# Altium schematic symbol library General_Connector.SchLib: 11 symbols
Pins are listed as number, name and electrical type; pins without a type are passive.

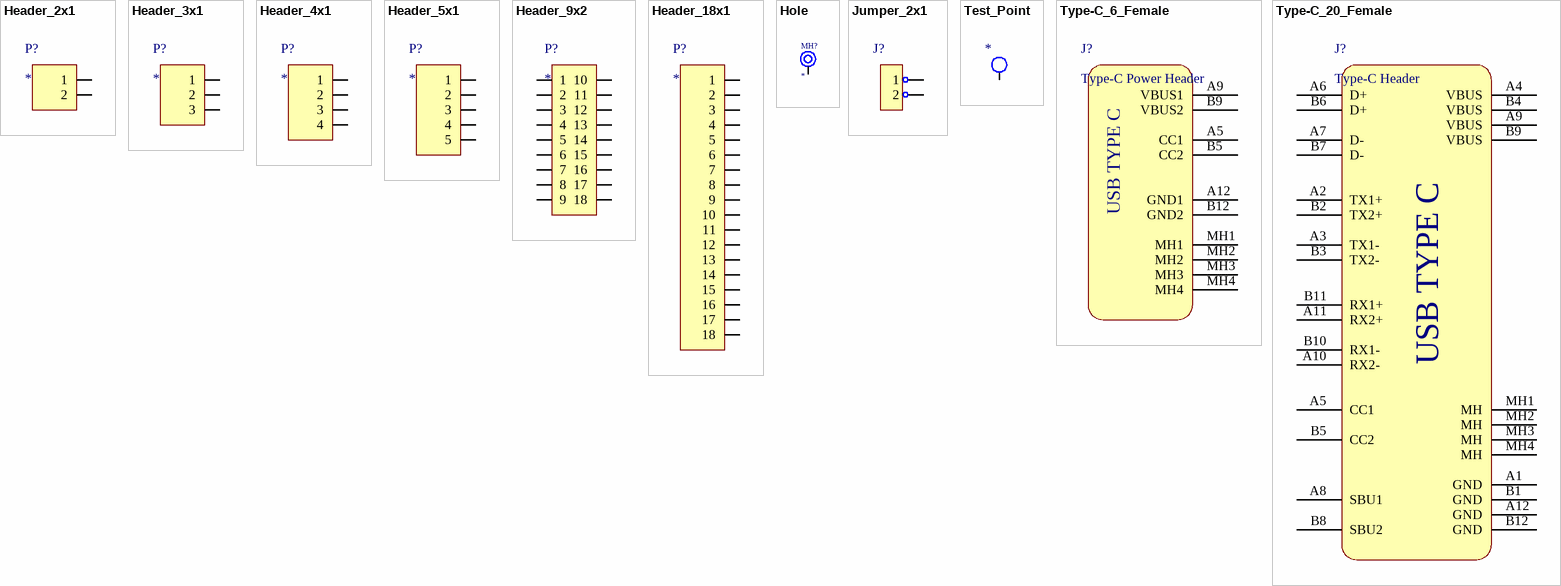
[diagram p0: symbols Header_2x1 to Type-C_20_Female]

## Header_2x1
designator P?
General header 2x1; Mfr. #: *; Mfr.: *; Distributor_Link: *; Datasheet: *; Distributor #: *
footprint XT60PW-M
footprint KF350-2P
footprint Dupont_Header_(Female)_2.54_2x1 (Dupont Header (Female) 2x1)
footprint Dupont_Header_(male)_2.54_2x1 (Dupont Header (male) 2x1)
pins: 1, 2

## Header_3x1
designator P?
General header 3x1; Mfr. #: *; Mfr.: *; Distributor_Link: *; Datasheet: *; Distributor #: *
pins: 1, 2, 3

## Header_4x1
designator P?
General header 4x1; Mfr. #: *; Mfr.: *; Distributor_Link: *; Datasheet: *; Distributor #: *
footprint XT60PW-M
footprint KF350-2P
pins: 1, 2, 3, 4

## Header_5x1
designator P?
General header 5x1; Mfr. #: *; Mfr.: *; Distributor_Link: *; Datasheet: *; Distributor #: *
footprint XT60PW-M
footprint KF350-2P
pins: 1, 2, 3, 4, 5

## Header_9x2
designator P?
General header 5x1; Mfr. #: *; Mfr.: *; Distributor_Link: *; Datasheet: *; Distributor #: *
footprint XT60PW-M
footprint KF350-2P
pins: 1, 2, 3, 4, 5, 6, 7, 8, 9, 10, 11, 12, 13, 14, 15, 16, 17, 18

## Header_18x1
designator P?
General header 5x1; Mfr. #: *; Mfr.: *; Distributor_Link: *; Datasheet: *; Distributor #: *
footprint XT60PW-M
footprint KF350-2P
pins: 1, 2, 3, 4, 5, 6, 7, 8, 9, 10, 11, 12, 13, 14, 15, 16, 17, 18

## Hole
designator MH?
Hole
footprint M3_Hole
pins: 1 "MH"

## Jumper_2x1
designator J?  (value not drawn)
General Jumper 2x1; Mfr. #: *; Mfr.: *; Distributor_Link: *; Datasheet: *; Distributor #: *
footprint Dupont_Header_(Female)_2.54_2x1 (Dupont Header (Female) 2x1)
footprint Dupont_Header_(male)_2.54_2x1 (Dupont Header (male) 2x1)
pins: 1, 2

## Test_Point
designator *  (value not drawn)
General test point; Mfr. #: N/A; Mfr.: N/A; Distributor_Link: N/A; Datasheet: N/A; Distributor #: N/A
footprint TestPoint_dip_big (Length: 11.3 mm Outside Diameter: 3.17 mm)
footprint TestPoint_dip_middle (Length: 8.89 mm Outside Diameter: 3.18 mm)
footprint TestPoint_dip_small (Length: 7.62 mm Outside Diameter: 2.54 mm)
footprint TestPoint_smd_100mil (Diameter: 2.54 mm)
footprint TestPoint_smd_50mil (Diameter: 1.27 mm)
footprint TestPoint_smd_25mil (Diameter: 0.535 mm)
pins: 1

## Type-C_6_Female
designator J?, comment Type-C Power Header
Gerenal Type-C female header; MFR. #: *; Mfr.: *; Distributor_Link: *; Datasheet: *; Distributor #: *
footprint Type-C_6_Female (5A 1 Surface Mount 6 Female -25℃~+85℃ Type-C SMD  USB Connectors ROHS)
pins: A5 CC1, A9 VBUS1, A12 GND1, B5 CC2, B9 VBUS2, B12 GND2, MH1, MH2, MH3, MH4
text: USB TYPE C

## Type-C_20_Female
designator J?, comment Type-C Header
Gerenal Type-C female header; MFR. #: *; Mfr.: *; Distributor_Link: *; Datasheet: *; Distributor #: *
pins: A1 GND, A2 TX1+, A3 TX1-, A4 VBUS, A5 CC1, A6 D+, A7 D-, A8 SBU1, A9 VBUS, A10 RX2-, A11 RX2+, A12 GND, B1 GND, B2 TX2+, B3 TX2-, B4 VBUS, B5 CC2, B6 D+, B7 D-, B8 SBU2, B9 VBUS, B10 RX1-, B11 RX1+, B12 GND, MH1 MH, MH2 MH, MH3 MH, MH4 MH
text: USB TYPE C